# Altium footprint library Newport Components Footprints.PcbLib: 38 footprints (part 3 of 3)
Each footprint in its own frame and in the unit in brackets; x right, y up, seen from the top. Pads: shape width x height; smd on the part's side, far side on the other; paste and mask are expansions set on the pad; w line width, h text height; cw(c..) or ccw(c..) is an arc to the next point about the centre after c.
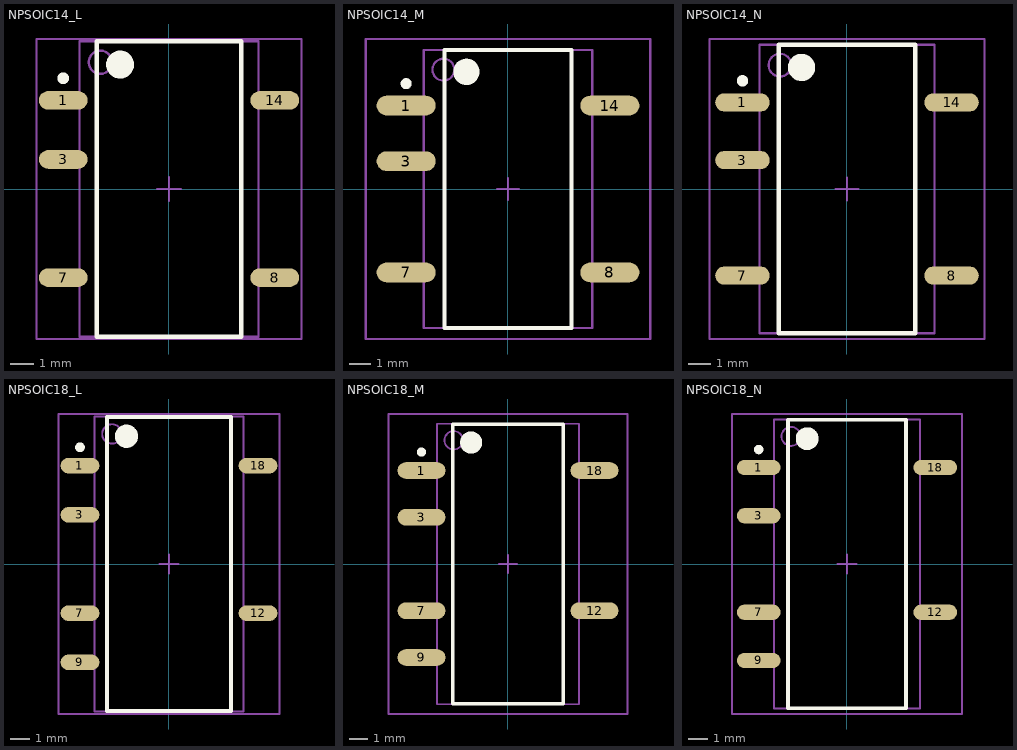
[diagram p2: the footprints below, top view; thin cyan lines are the x and y axes]

## NPSOIC14_L [mm] "14-Pin (9 Absent) Small Outline Package 1.27 mm Pitch, IPC High Density"
height 6.43
pads (5):
  oval 2.1x0.8 smd: 1(-4.55,3.81) 3(-4.55,1.27) 7(-4.55,-3.81) 8(4.55,-3.81) 14(4.55,3.81)
Top Overlay:
  circle w0.6: c-2.1,5.35 r0.3
  circle w0.25: c-4.55,4.76 r0.125
  lines w0.2: -3.1,-6.35 3.1,-6.35 3.1,6.35 -3.1,6.35 -3.1,-6.35
Mechanical 13:
  circle w0.1: c-2.95,5.45 r0.5
  lines w0.1: -3.85,-6.35 3.85,-6.35 3.85,6.35 -3.85,6.35 -3.85,-6.35
Mechanical 15:
  lines w0.1: -0.5,0 0.5,0 ; 0,-0.5 0,0.5 ; -5.7,-6.45 5.7,-6.45 5.7,6.45 -5.7,6.45 -5.7,-6.45
3D body: height 6.43, standoff 0, extent -3.85,-6.35 3.85,6.35

## NPSOIC14_M [mm] "14-Pin (9 Absent) Small Outline Package 1.27 mm Pitch, IPC Low Density"
height 6.43
pads (5):
  oval 2.7x0.9 smd: 1(-4.65,3.81) 3(-4.65,1.27) 7(-4.65,-3.81) 8(4.65,-3.81) 14(4.65,3.81)
Top Overlay:
  circle w0.25: c-4.65,4.81 r0.125
  circle w0.6: c-1.9,5.35 r0.3
  lines w0.2: -2.9,-6.35 -2.9,6.35 2.9,6.35 2.9,-6.35 -2.9,-6.35
Mechanical 13:
  circle w0.1: c-2.95,5.45 r0.5
  lines w0.1: -3.85,-6.35 -3.85,6.35 3.85,6.35 3.85,-6.35 -3.85,-6.35
Mechanical 15:
  lines w0.1: -0.5,0 0.5,0 ; 0,-0.5 0,0.5 ; -6.5,-6.85 -6.5,6.85 6.5,6.85 6.5,-6.85 -6.5,-6.85
3D body: height 6.43, standoff 0, extent -3.85,-6.35 3.85,6.35

## NPSOIC14_N [mm] "14-Pin (9 Absent) Small Outline Package 1.27 mm Pitch, IPC Medium Density"
height 6.43
pads (5):
  oval 2.4x0.8 smd: 1(-4.6,3.81) 3(-4.6,1.27) 7(-4.6,-3.81) 8(4.6,-3.81) 14(4.6,3.81)
Top Overlay:
  circle w0.6: c-2,5.35 r0.3
  circle w0.25: c-4.6,4.76 r0.125
  lines w0.2: -3,-6.35 3,-6.35 3,6.35 -3,6.35 -3,-6.35
Mechanical 13:
  circle w0.1: c-2.95,5.45 r0.5
  lines w0.1: -3.85,-6.35 3.85,-6.35 3.85,6.35 -3.85,6.35 -3.85,-6.35
Mechanical 15:
  lines w0.1: -0.5,0 0.5,0 ; 0,-0.5 0,0.5 ; -6.05,-6.6 6.05,-6.6 6.05,6.6 -6.05,6.6 -6.05,-6.6
3D body: height 6.43, standoff 0, extent -3.85,-6.35 3.85,6.35

## NPSOIC18_L [mm] "18-Pin (12 Absent) Small Outline Package 1.27 mm Pitch, IPC High Density"
height 6.43
pads (6):
  oval 2x0.8 smd: 1(-4.6,5.08) 3(-4.6,2.54) 7(-4.6,-2.54) 9(-4.6,-5.08) 12(4.6,-2.54) 18(4.6,5.08)
Top Overlay:
  circle w0.6: c-2.2,6.6 r0.3
  circle w0.25: c-4.6,6.03 r0.125
  lines w0.2: -3.2,-7.6 3.2,-7.6 3.2,7.6 -3.2,7.6 -3.2,-7.6
Mechanical 13:
  circle w0.1: c-2.95,6.72 r0.5
  lines w0.1: -3.85,-7.62 3.85,-7.62 3.85,7.62 -3.85,7.62 -3.85,-7.62
Mechanical 15:
  lines w0.1: -0.5,0 0.5,0 ; 0,-0.5 0,0.5 ; -5.7,-7.75 5.7,-7.75 5.7,7.75 -5.7,7.75 -5.7,-7.75
3D body: height 6.43, standoff 0, extent -3.85,-7.62 3.85,7.62

## NPSOIC18_M [mm] "18-Pin (12 Absent) Small Outline Package 1.27 mm Pitch, IPC Low Density"
height 6.43
pads (6):
  oval 2.6x0.9 smd: 1(-4.7,5.08) 3(-4.7,2.54) 7(-4.7,-2.54) 9(-4.7,-5.08) 12(4.7,-2.54) 18(4.7,5.08)
Top Overlay:
  circle w0.6: c-2,6.6 r0.3
  circle w0.25: c-4.7,6.08 r0.125
  lines w0.2: -3,-7.6 3,-7.6 3,7.6 -3,7.6 -3,-7.6
Mechanical 13:
  circle w0.1: c-2.95,6.72 r0.5
  lines w0.1: -3.85,-7.62 3.85,-7.62 3.85,7.62 -3.85,7.62 -3.85,-7.62
Mechanical 15:
  lines w0.1: -0.5,0 0.5,0 ; 0,-0.5 0,0.5 ; -6.5,-8.15 6.5,-8.15 6.5,8.15 -6.5,8.15 -6.5,-8.15
3D body: height 6.43, standoff 0, extent -3.85,-7.62 3.85,7.62

## NPSOIC18_N [mm] "18-Pin (12 Absent) Small Outline Package 1.27 mm Pitch, IPC Medium Density"
height 6.43
pads (6):
  oval 2.3x0.8 smd: 1(-4.65,5.08) 3(-4.65,2.54) 7(-4.65,-2.54) 9(-4.65,-5.08) 12(4.65,-2.54) 18(4.65,5.08)
Top Overlay:
  circle w0.25: c-4.65,6.03 r0.125
  circle w0.6: c-2.1,6.6 r0.3
  lines w0.2: -3.1,-7.6 -3.1,7.6 3.1,7.6 3.1,-7.6 -3.1,-7.6
Mechanical 13:
  circle w0.1: c-2.95,6.72 r0.5
  lines w0.1: -3.85,-7.62 -3.85,7.62 3.85,7.62 3.85,-7.62 -3.85,-7.62
Mechanical 15:
  lines w0.1: -0.5,0 0.5,0 ; 0,-0.5 0,0.5 ; -6.05,-7.9 -6.05,7.9 6.05,7.9 6.05,-7.9 -6.05,-7.9
3D body: height 6.43, standoff 0, extent -3.85,-7.62 3.85,7.62